# Altium schematic symbol library DFE252012P-2R2M=P2.SchLib: 1 symbol
Pins are listed as number, name and electrical type; pins without a type are passive.

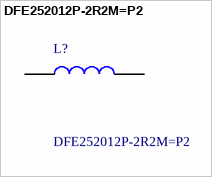
[diagram p0: symbol DFE252012P-2R2M=P2]

## DFE252012P-2R2M=P2
designator L?
Toko DFE252012P Series Shielded Wire-wound SMD Inductor with a Powered Iron Core, 2.2 uH Wire-Wound 3.4A Idc; Manufacturer_Name: Murata Electronics; Geometry.Height: 1.2mm; Manufacturer_Part_Number: DFE252012P-2R2M=P2; Mouser Part Number: 81-DFE252012P-2R2MP2; Mouser Price/Stock: https://www.mouser.co.uk/ProductDetail/Murata-Electronics/DFE252012P-2R2M%3dP2?qs=KuGPmAKtFKXLyjzo39FSsQ%3D%3D; Arrow Part Number: DFE252012P-2R2M=P2; Arrow Price/Stock: https://www.arrow.com/en/products/dfe252012p-2r2mp2/murata-manufacturing?utm_currency=USD&region=nac; Datasheet Link: https://search.murata.co.jp/Ceramy/image/img/P02/J(E)TE243A-0024.pdf
footprint DFE2HCAH1R0MJ0L
pins: 1, 2